# Altium schematic symbol library Turck RS-RS.Schlib: 1 symbol
Pins are listed as number, name and electrical type; pins without a type are passive.

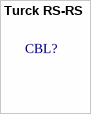
[diagram p0: symbol Turck RS-RS]

## Turck RS-RS
designator CBL?  (mechanical)